# EAGLE library part 1296-T14 (library con-leotronics)
1.27mm SINGLE ROW FEMALE SOCKET Source: http://www.leotronics.co.uk/Conexcon/Data%20Sheets/sec.%20A/1296ing.pdf
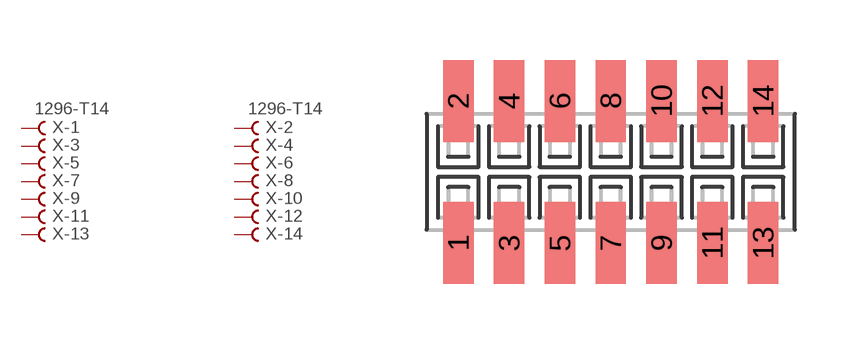
[diagram p58: symbol with the pads of 1296-14; footprint 1296-14]

Designator prefix X; gates -1=FVAL -2=FVAL -3=F -4=F -5=F -6=F -7=F -8=F -9=F -10=F -11=F -12=F -13=F -14=F

## 1296-T14 (OC_FARNELL: unknown; OC_NEWARK: unknown)  [1296-14]
1  -1:B  pas
2  -2:B  pas
3  -3:B  pas
4  -4:B  pas
5  -5:B  pas
6  -6:B  pas
7  -7:B  pas
8  -8:B  pas
9  -9:B  pas
10  -10:B  pas
11  -11:B  pas
12  -12:B  pas
13  -13:B  pas
14  -14:B  pas

## Footprint 1296-14 (pad centres in mm)
1.27mm SINGLE ROW FEMALE SOCKET Source: http://www.leotronics.co.uk/Conexcon/Data%20Sheets/sec.%20A/1296ing.pdf
smd 0.76 x 2.05: 1 -3.81,-1.78; 2 -3.81,1.78; 3 -2.54,-1.78; 4 -2.54,1.78; 5 -1.27,-1.78; 6 -1.27,1.78; 7 0,-1.78; 8 0,1.78; 9 1.27,-1.78; 10 1.27,1.78; 11 2.54,-1.78; 12 2.54,1.78; 13 3.81,-1.78; 14 3.81,1.78